# EAGLE library part RM3100 (library IMU)
Geomagnetic Sensor Datasheet <https://www.pnicorp.com/wp-content/uploads/RM3100-RM2100-Sensor-Suite-User-Manual-V9.0.pdf>
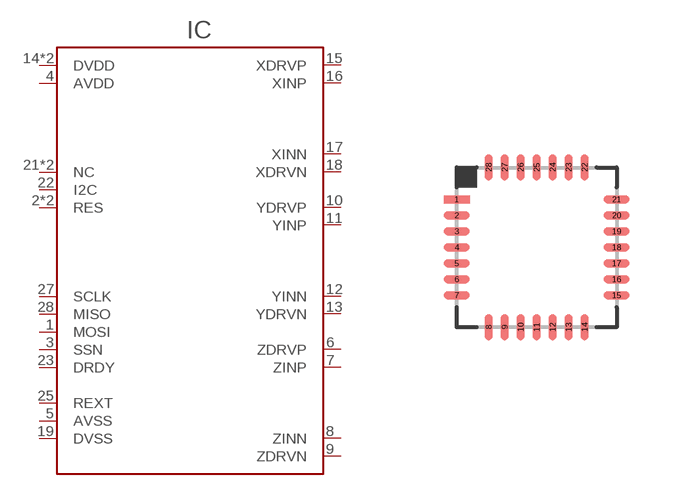
[diagram p3: symbol with the pads of QFN28(4X4)-RM3100; footprint QFN28(4X4)-RM3100]

Designator prefix IC

## RM3100 (MANF: PNI; MANF#: RM3100)  [QFN28(4X4)-RM3100]
1  MOSI
2  RES
3  SSN
4  AVDD
5  AVSS
6  ZDRVP
7  ZINP
8  ZINN
9  ZDRVN
10  YDRVP
11  YINP
12  YINN
13  YDRVN
14  DVDD
15  XDRVP
16  XINP
17  XINN
18  XDRVN
19  DVSS
20  RES
21  NC
22  I2C
23  DRDY
24  NC
25  REXT
26  DVDD
27  SCLK
28  MISO

## Footprint QFN28(4X4)-RM3100 (pad centres in mm)
Section 12.2 https://www.ftdichip.com/Support/Documents/TechnicalNotes/TN_166%20FTDI%20Example%20IC%20PCB%20Footprints.pdf
smd 0.65 x 0.2: 1 -2,1.2; 2 -2,0.8; 3 -2,0.4; 4 -2,0; 5 -2,-0.4; 6 -2,-0.8; 7 -2,-1.2; 15 2,-1.2; 16 2,-0.8; 17 2,-0.4; 18 2,0; 19 2,0.4; 20 2,0.8; 21 2,1.2
smd 0.2 x 0.65: 8 -1.2,-2; 9 -0.8,-2; 10 -0.4,-2; 11 0,-2; 12 0.4,-2; 13 0.8,-2; 14 1.2,-2; 22 1.2,2; 23 0.8,2; 24 0.4,2; 25 0,2; 26 -0.4,2; 27 -0.8,2; 28 -1.2,2